# Altium schematic symbol library WeatherBalloon_SchematicLibrary.SCHLIB: 22 symbols
Pins are listed as number, name and electrical type; pins without a type are passive.

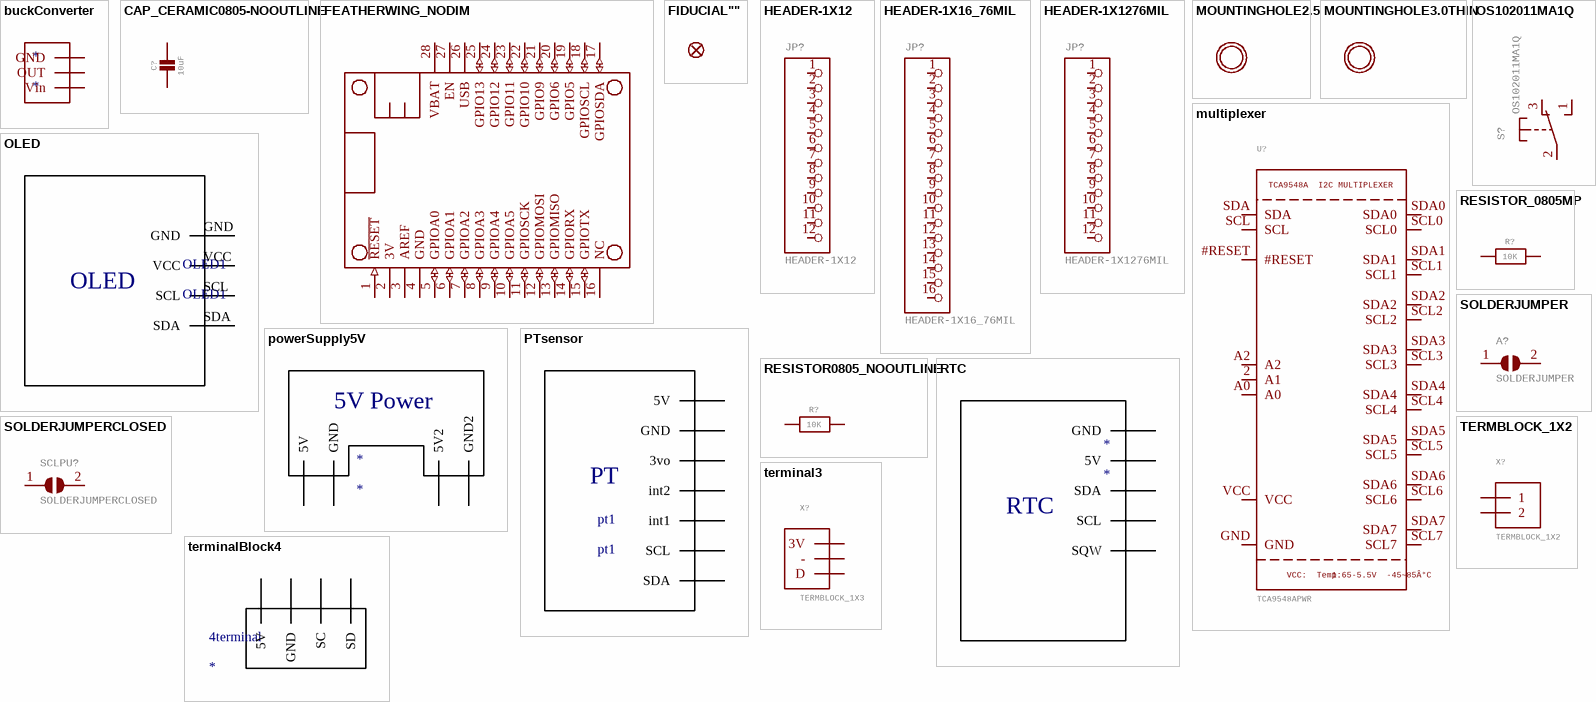
[diagram p0: symbols buckConverter to terminalBlock4]

## buckConverter
designator *
footprint buckConverter (4.5 - 12V input, 3V output)
footprint buckConverter (4.5 - 12V input, 3V output)
pins: GND, OUT, Vin

## CAP_CERAMIC0805-NOOUTLINE
designator C?, comment 10uF
Ceramic Capacitors   For new designs, use the packages preceded by an '_' character since they are more reliable:   The following footprints should be used on most boards: _0402 - Standard footprint for regular board layouts  _0603 - Standard footprint for regular board layouts  _0805 - Standard footprint for regular board layouts  _1206 - Standard footprint for regular board layouts       For extremely tight-pitch boards where space is at a premium, the following 'micro-pitch' footprints can be used (smaller pads, no silkscreen outline, etc.): _0402MP - Micro-pitch footprint for very dense/compact boards  _0603MP - Micro-pitch footprint for very dense/compact boards  _0805MP - Micro-pitch footprint for very dense/compact boards  _1206MP - Micro-pitch footprint for very dense/compact boards; GateName_1: G$1; DeviceName: 0805-NOOUTLINE; DeviceSetName: CAP_CERAMIC; SymbolName_1: CAPACITOR; LibraryName: microbuilder
footprint 0805-NO
pins: 1, 2

## FEATHERWING_NODIM
designator MS?  (value not drawn)
GateName_1: G$1; SymbolName_1: MICROSHIELD; DeviceName: _NODIM; LibraryName: microbuilder; DeviceSetName: FEATHERWING
footprint featherM0
pins: 1 ~{RESET} (in), 2 3V (power), 3 AREF, 4 GND (power), 5 GPIOA0 (io), 6 GPIOA1 (io), 7 GPIOA2 (io), 8 GPIOA3 (io), 9 GPIOA4 (io), 10 GPIOA5 (io), 11 GPIOSCK (io), 12 GPIOMOSI (io), 13 GPIOMISO (io), 14 GPIORX (io), 15 GPIOTX (io), 16 NC, 17 GPIOSDA (io), 18 GPIOSCL (io), 19 GPIO5 (io), 20 GPIO6 (io), 21 GPIO9 (io), 22 GPIO10 (io), 23 GPIO11 (io), 24 GPIO12 (io), 25 GPIO13 (io), 26 USB (power), 27 EN, 28 VBAT (power)

## FIDUCIAL""
designator FID?  (value not drawn)
Fiducial Alignment Points   Various fiducial points for machine vision alignment.; GateName_1: G$1; DeviceName: ""; BOM: EXCLUDE; SymbolName_1: FIDUCIAL; LibraryName: microbuilder; DeviceSetName: FIDUCIAL
footprint FIDUCIAL_1MM

## HEADER-1X12
designator JP?
GateName_1: G$1; SymbolName_1: PINHD12; LibraryName: microbuilder; DeviceSetName: HEADER-1X12
footprint 1X12_ROUND
pins: 1, 2, 3, 4, 5, 6, 7, 8, 9, 10, 11, 12

## HEADER-1X16_76MIL
designator JP?
PIN HEADER; GateName_1: A; SymbolName_1: PINHD16; DeviceName: _76MIL; LibraryName: microbuilder; DeviceSetName: HEADER-1X16
footprint 1X16_ROUND_76MIL
pins: 1, 2, 3, 4, 5, 6, 7, 8, 9, 10, 11, 12, 13, 14, 15, 16

## HEADER-1X1276MIL
designator JP?
GateName_1: G$1; SymbolName_1: PINHD12; DeviceName: 76MIL; LibraryName: microbuilder; DeviceSetName: HEADER-1X12
footprint 1X12_ROUND_76MIL
pins: 1, 2, 3, 4, 5, 6, 7, 8, 9, 10, 11, 12

## MOUNTINGHOLE2.5
designator U$?  (value not drawn)
Mounting Hole   For #2 screws (0.086"/2.18mm width, 0.094"/2.4mm hole) use 2.5mm; GateName_1: G$1; DeviceName: 2.5; BOM: EXCLUDE; SymbolName_1: MOUNTINGHOLE; LibraryName: microbuilder; DeviceSetName: MOUNTINGHOLE
footprint MOUNTINGHOLE_2.5_PLATED

## MOUNTINGHOLE3.0THIN
designator U$?  (value not drawn)
Mounting Hole   For #2 screws (0.086"/2.18mm width, 0.094"/2.4mm hole) use 2.5mm; GateName_1: G$1; BOM: EXCLUDE; SymbolName_1: MOUNTINGHOLE; DeviceName: 3.0THIN; LibraryName: microbuilder; DeviceSetName: MOUNTINGHOLE
footprint MOUNTINGHOLE_3.0_PLATEDTHIN

## multiplexer
designator U?, comment TCA9548APWR  TCA9548A
I2CMULTIPLEXER: TCA9548A / I2C MULTIPLEXER  VCC:
Temp: VCC: / Temp:  1.65-5.5V
-45~85Â°C: 1.65-5.5V / -45~85Â°C
TCA9548A I2C Multiplexer; GateName_1: G$1; SymbolName_1: TCA9548A; LibraryName: microbuilder; DeviceSetName: TCA9548A
footprint multiplexer (multiplexer pinout)
pins: 2 A1 (io), #RESET (io), A0 (io), A2 (io), GND (io), SCL (io), SCL0 (io), SCL1 (io), SCL2 (io), SCL3 (io), SCL4 (io), SCL5 (io), SCL6 (io), SCL7 (io), SDA (io), SDA0 (io), SDA1 (io), SDA2 (io), SDA3 (io), SDA4 (io), SDA5 (io), SDA6 (io), SDA7 (io), VCC (io)

## OLED
designator OLED1, comment OLED1
OLED screen
footprint OLED
pins: GND, SCL, SDA, VCC

## OS102011MA1Q
designator S?
OS10201MA1Q through-hole right angle switch    http://www.ladyada.net/library/eagle; GateName_1: G$1; SymbolName_1: TSU; LibraryName: adafruit; DeviceSetName: OS102011MA1Q
footprint OS102011MA1Q
pins: 1 S, 2 P, 3 O

## powerSupply5V
designator *
5V power supply for solderless breadboard
footprint powerSupply5V (5V power supply)
pins: 5V, 5V2, GND, GND2
text: 5V Power

## PTsensor
designator pt1, comment pt1
footprint PTsensor
pins: 3vo, 5V, GND, int1, int2, SCL, SDA
text: PT

## RESISTOR0805_NOOUTLINE
designator R?, comment 10K
Resistors   For new designs, use the packages preceded by an '_' character since they are more reliable:   The following footprints should be used on most boards: _0402 - Standard footprint for regular board layouts  _0603 - Standard footprint for regular board layouts  _0805 - Standard footprint for regular board layouts  _1206 - Standard footprint for regular board layouts       For extremely tight-pitch boards where space is at a premium, the following 'micro-pitch' footprints can be used (smaller pads, no silkscreen outline, etc.): _0402MP - Micro-pitch footprint for very dense/compact boards  _0603MP - Micro-pitch footprint for very dense/compact boards  _0805MP - Micro-pitch footprint for very dense/compact boards  _1206MP - Micro-pitch footprint for very dense/compact boards; GateName_1: G$1; DeviceName: 0805_NOOUTLINE; SymbolName_1: RESISTOR; LibraryName: microbuilder; DeviceSetName: RESISTOR
footprint 0805-NO
pins: 1, 2

## RESISTOR_0805MP
designator R?, comment 10K
Resistors   For new designs, use the packages preceded by an '_' character since they are more reliable:   The following footprints should be used on most boards: _0402 - Standard footprint for regular board layouts  _0603 - Standard footprint for regular board layouts  _0805 - Standard footprint for regular board layouts  _1206 - Standard footprint for regular board layouts       For extremely tight-pitch boards where space is at a premium, the following 'micro-pitch' footprints can be used (smaller pads, no silkscreen outline, etc.): _0402MP - Micro-pitch footprint for very dense/compact boards  _0603MP - Micro-pitch footprint for very dense/compact boards  _0805MP - Micro-pitch footprint for very dense/compact boards  _1206MP - Micro-pitch footprint for very dense/compact boards; GateName_1: G$1; SymbolName_1: RESISTOR; DeviceName: _0805MP; LibraryName: microbuilder; DeviceSetName: RESISTOR
footprint _0805MP
pins: 1, 2

## RTC
designator *
footprint RTC (real time clock)
pins: 5V, GND, SCL, SDA, SQW

## SOLDERJUMPER
designator A?
SMD Solder JUMPER   Solder the two pads together to create a connection, or remove the solder to break it.REFLOW - Use this footprint for solder paste and reflow ovens. WAVE - Use this footprint for hand-soldering (larger pads).    CLOSED - Has a trace between the two pads to ensure it is closed by default.  The trace needs to be cut to disable the jumper, and can be closed again by creating a solder bridge between the two pads.; GateName_1: 1; BOM: EXCLUDE; SymbolName_1: SOLDERJUMPER; LibraryName: microbuilder; DeviceSetName: SOLDERJUMPER
footprint SOLDERJUMPER_ARROW_NOPASTE
pins: 1, 2

## SOLDERJUMPERCLOSED
designator SCLPU?
SMD Solder JUMPER   Solder the two pads together to create a connection, or remove the solder to break it.REFLOW - Use this footprint for solder paste and reflow ovens. WAVE - Use this footprint for hand-soldering (larger pads).    CLOSED - Has a trace between the two pads to ensure it is closed by default.  The trace needs to be cut to disable the jumper, and can be closed again by creating a solder bridge between the two pads.; GateName_1: 1; SymbolName_1: SOLDERJUMPER; DeviceName: CLOSED; LibraryName: microbuilder; DeviceSetName: SOLDERJUMPER
footprint SOLDERJUMPER_CLOSEDWIRE
pins: 1, 2

## TERMBLOCK_1X2
designator X?
3.5mm Terminal block    http://www.ladyada.net/library/pcb/eaglelibrary.html; GateName_1: G$1; SymbolName_1: 1X2; LibraryName: microbuilder; DeviceSetName: TERMBLOCK_1X2
footprint TERMBLOCK_1X2-3.5MM
pins: 1, 2

## terminal3
designator X?, comment TERMBLOCK_1X3
3.5mm Terminal block    http://www.ladyada.net/library/pcb/eaglelibrary.html; GateName_1: G$1; SymbolName_1: 1X3; LibraryName: microbuilder; DeviceSetName: TERMBLOCK_1X3
footprint terminal3 (Terminal block with 3 pins for geiger counter)
pins: 3V, -, D

## terminalBlock4
designator 4terminal
Terminal Block with 4 pins, intended for I2C interfacing.
footprint terminalBlock4
pins: 5V, GND, SC, SD